# Altium footprint library Con_PcbLib.PcbLib: 98 footprints (part 6 of 7)
Each footprint in its own frame and in the unit in brackets; x right, y up, seen from the top. Pads: shape width x height; smd on the part's side, far side on the other; paste and mask are expansions set on the pad; w line width, h text height; cw(c..) or ccw(c..) is an arc to the next point about the centre after c.
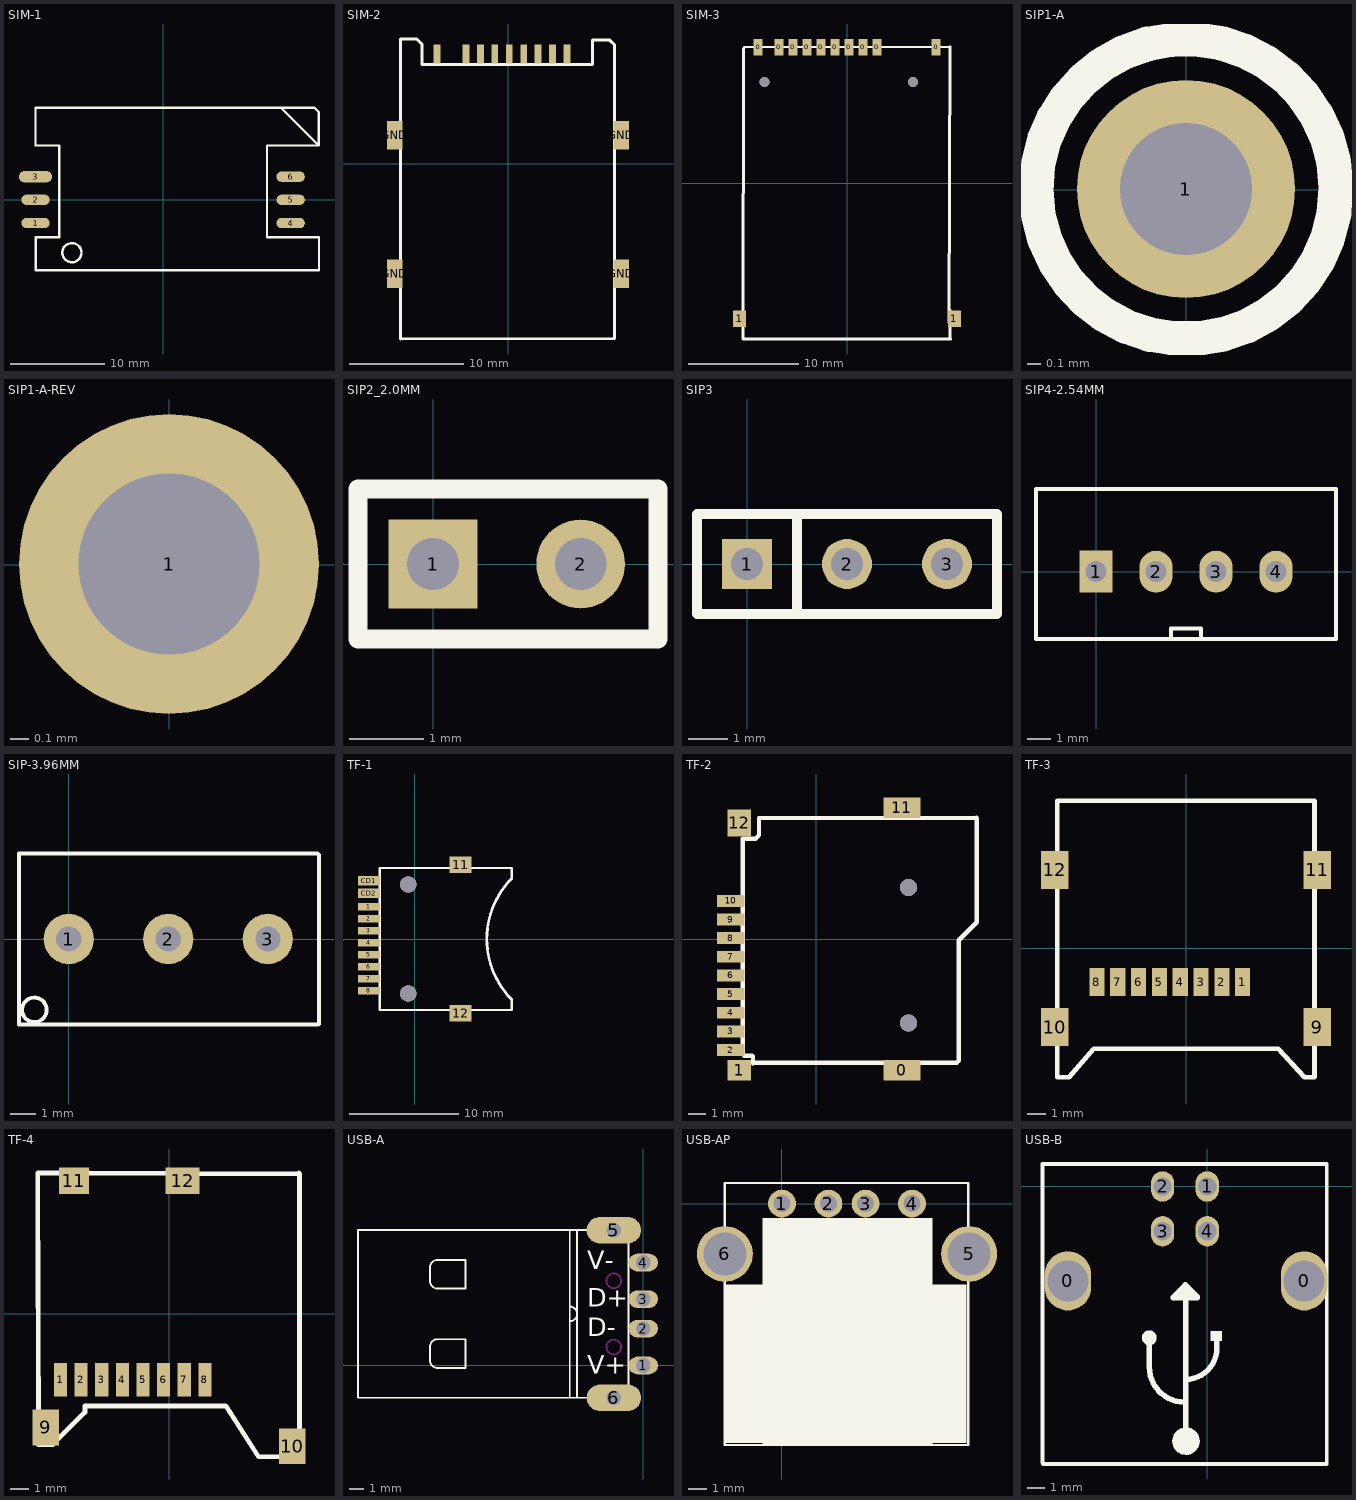
[diagram p5: the footprints below, top view; thin cyan lines are the x and y axes]

## SIM-1 [mm]
pads (6):
  oval 3x1.1 smd: 1(-13.5,-2.45) 2(-13.5,0) 4(13.5,-2.45) 5(13.5,0) 6(13.5,2.45)
  oval 3.5x1.2 smd: 3(-13.5,2.45)
Top Overlay:
  circle w0.254: c-9.652,-5.588 r1.016
  lines w0.254: -13.495,-7.43 -13.495,-3.95 -11,-3.95 -11,5.735 ; -13.475,-7.45 16.5,-7.45 ; -11,5.75 -13.492,5.75 -13.5,5.758 -13.5,9.75 16.011,9.75 16.467,9.294 16.467,5.75 ; 11,-3.95 11,5.75 16.467,5.75 ; 11.005,-3.95 14.923,-3.95 ; 12.467,9.75 16.467,5.75 ; 14.542,-3.95 16.495,-3.95 16.495,-7.445

## SIM-2 [mm]
pads (13):
  rect 0.6x1.65 smd: 0(-6.25,9.662) 0(-3.7,9.662) 0(-2.43,9.662) 0(-1.16,9.662) 0(0.11,9.662) 0(1.38,9.662) 0(2.65,9.662) 0(3.92,9.662) 0(5.19,9.662)
  rect 1.35x2.5 smd: GND(-9.95,-9.662) GND(-9.95,2.538) GND(9.95,-9.662) GND(9.95,2.537)
Top Overlay:
  lines w0.254: -9.44,-15.382 -9.44,10.983 -9.186,10.983 -8.018,10.983 -7.561,10.526 -7.561,8.748 7.425,8.748 7.425,10.882 8.949,10.882 9.356,10.475 9.356,-15.331 -9.44,-15.382

## SIM-3 [mm]
pads (12):
  rect 0.8x1.5 smd: 0(-8.07,12.325) 0(-6.17,12.325) 0(-4.9,12.325) 0(-3.63,12.325) 0(-2.36,12.325) 0(-1.09,12.325) 0(0.18,12.325) 0(1.45,12.325) 0(2.72,12.325) 0(8.08,12.325)
  rect 1.2x1.5 smd: 1(-9.75,-12.325) 1(9.75,-12.325)
via -7.5,9.175 diameter 0.9 hole 0.9
via 6,9.175 diameter 0.9 hole 0.9
Top Overlay:
  lines w0.254: 7.778,12.325 9.353,12.375 ; 9.251,-12.618 9.353,12.375 ; 9.353,-11.501 9.353,-14.091 9.404,-14.142 8.642,-14.142 -9.443,-14.142 -9.392,12.223 -9.291,12.325 9.353,12.375

## SIP1-A [mil]
pads (1):
  round 63 hole 38: 1(-0.06,0.21)
Top Overlay:
  lines w10: 43.25,0.21 cw(c-0.06,0.21) 43.24,0.94

## SIP1-A-REV [mil]
pads (1):
  round 63 hole 38: 1(-0.06,0.21)

## SIP2_2.0MM [mm]
pads (2):
  rect 1.2x1.2 hole 0.7: 1(0,0)
  round 1.2 hole 0.7: 2(2,0)
Top Overlay:
  lines w0.254: -1.016,-1.016 -1.016,1.016 3.048,1.016 3.048,-1.016 -1.016,-1.016

## SIP3 [mil]
pads (3):
  rect 50x50 hole 32: 1(0,0)
  round 50 hole 32: 2(100,0) 3(200,0)
Top Overlay:
  lines w10: 50,-50 50,50 ; -50,-50 250,-50 250,50 -50,50 -50,-50

## SIP4-2.54MM [mil]
pads (4):
  rect 55x70 hole 35: 1(0,0)
  oval 55x70 hole 35: 2(100,0) 3(200,0) 4(300,0)
Top Overlay:
  lines w7: 125,-112.2 125,-94.49 175,-94.49 175,-112.2 ; -100,-112.2 400,-112.2 400,137.8 -100,137.8 -100,-112.2

## SIP-3.96MM [mm]
pads (3):
  round 2 hole 1: 1(0,0) 2(3.96,0) 3(7.92,0)
Top Overlay:
  circle w0.152: c-1.372,-2.819 r0.488
  lines w0.152: -1.981,3.378 -1.98,3.377 -1.98,-3.4 9.9,-3.4 ; -1.98,3.4 9.9,3.4 9.957,3.343 9.957,-3.378

## TF-1 [mm]
pads (14):
  rect 2x0.7 smd: 1(-4.2,2.95) 2(-4.2,1.85) 3(-4.2,0.75) 4(-4.2,-0.35) 5(-4.2,-1.45) 6(-4.2,-2.55) 7(-4.2,-3.65) 8(-4.2,-4.75)
  rect 2x1.5 smd: 11(4.2,6.82) 12(4.2,-6.82)
  rect 2x0.85 smd: CD1(-4.2,5.35) CD2(-4.2,4.2)
  round 1.5 hole 1.5 unplated: ""(-0.6,-5)
  round 1.5 hole 1.5: ""(-0.6,5)
Top Overlay:
  lines w0.2: 8.9,-5.55 8.9,-6.515 -3.2,-6.515 -3.2,6.515 8.9,6.515 8.9,5.55
  lines w0.254: 8.9,-5.55 cw(c14.45,0) 8.9,5.55

## TF-2 [mm]
pads (13):
  rect 2.2x1.2 smd: 0(5.05,-7.75) 11(5.05,7.75)
  rect 1.4x1.2 smd: 1(-4.55,-7.75)
  rect 1.6x0.7 smd: 2(-5.05,-6.55) 3(-5.05,-5.45) 4(-5.05,-4.35) 5(-5.05,-3.25) 6(-5.05,-2.15) 7(-5.05,-1.05) 8(-5.05,0.05) 9(-5.05,1.15) 10(-5.05,2.25)
  rect 1.4x1.6 smd: 12(-4.55,6.85)
via 5.45,3.05 diameter 1 hole 1
via 5.45,-4.95 diameter 1 hole 1
Top Layer:
  lines w0.254: -3.738,-7.344 -3.688,-7.293
Top Overlay:
  lines w0.254: -3.738,-7.344 -3.738,-6.937 -3.789,-6.886 -4.246,-6.886 -4.348,-6.785 -4.348,5.915 -3.586,5.915 -3.383,6.118 -3.383,7.134 9.45,7.15 ; -3.688,-7.293 8.301,-7.293 8.403,-7.191 8.403,-0.079 9.47,0.988 9.47,7.13

## TF-3 [mm]
pads (12):
  rect 0.8x1.5 smd: 1(2.993,-1.772) 2(1.893,-1.772) 3(0.793,-1.772) 4(-0.307,-1.772) 5(-1.407,-1.772) 6(-2.507,-1.772) 7(-3.607,-1.772) 8(-4.707,-1.772)
  rect 1.45x2 smd: 9(6.925,-4.15) 10(-6.925,-4.15) 11(6.925,4.15) 12(-6.925,4.15)
Top Overlay:
  lines w0.254: -6.805,-6.8 -6.182,-6.8 -4.875,-5.3 4.865,-5.3 6.264,-6.8 6.795,-6.8 6.795,7.8 -6.805,7.8 -6.805,-6.8

## TF-4 [mm]
pads (12):
  rect 0.7x1.8 smd: 1(-5.785,-3.525) 2(-4.685,-3.525) 3(-3.585,-3.525) 4(-2.485,-3.525) 5(-1.385,-3.525) 6(-0.285,-3.525) 7(0.815,-3.525) 8(1.915,-3.525)
  rect 1.4x1.9 smd: 9(-6.575,-6.075) 10(6.575,-7.075)
  rect 1.6x1.4 smd: 11(-5.075,7.075)
  rect 1.8x1.4 smd: 12(0.725,7.075)
Top Overlay:
  lines w0.254: -4.261,7.499 -7.004,7.499 ; 6.864,7.448 -7.004,7.499 ; 6.915,7.499 6.966,7.448 6.966,-7.64 ; 7.017,-7.589 6.966,-7.64 ; -7.004,7.499 -6.953,-6.979 -6.191,-6.979 -4.485,-5.273 -4.485,-4.925 2.935,-4.925 3.032,-4.925 4.781,-7.64 6.966,-7.64

## USB-A [mm]
pads (6):
  oval 2x1.2 hole 1: 1(0,0) 2(0.003,2.503) 3(0.003,4.506) 4(0.006,7)
  oval 3.7x1.8 hole 1: 5(-1.997,9.197) 6(-1.994,-2.198)
Top Overlay:
  lines w0.127: -4.998,-2.195 -4.998,9.205 ; -4.998,3.005 ccw(c-4.998,3.505) -4.998,4.005 ; -4.498,-2.195 -4.498,9.205 ; -3.398,-2.195 -19.398,-2.195 -19.398,9.205 -3.398,9.205 ; -0.998,-1.705 -0.998,8.715 ; -14.498,0.33 ccw(c-13.998,0.33) -13.998,-0.17 -12.098,-0.17 -12.098,1.78 -13.998,1.78 ccw(c-13.998,1.28) -14.498,1.28 -14.498,0.33 ; -14.498,5.73 ccw(c-13.998,5.73) -13.998,5.23 -12.098,5.23 -12.098,7.18 -13.998,7.18 ccw(c-13.998,6.68) -14.498,6.68 -14.498,5.73
  text "D-" at -3.789,1.976 h1.27
  text "V-" at -3.789,6.548 h1.27
  text "V+" at -3.789,-0.564 h1.27
  text "D+" at -3.789,4.008 h1.27
Keep-Out Layer:
  circle w0.127: c-1.998,1.255 r0.5
  circle w0.127: c-1.998,5.755 r0.5
  lines w0.127: -2.898,-2.695 cw(c-2.898,-2.195) -2.898,-1.695 -1.098,-1.695 cw(c-1.098,-2.195) -1.098,-2.695 -2.898,-2.695 ; -2.898,8.705 cw(c-2.898,9.205) -2.898,9.705 -1.098,9.705 cw(c-1.098,9.205) -1.098,8.705 -2.898,8.705

## USB-AP [mm]
pads (6):
  round 1.5 hole 0.92: 1(0,0) 2(2.5,0) 3(4.5,0) 4(7,0)
  round 3 hole 2.3: 5(10.07,-2.71) 6(-3.07,-2.71)
Top Overlay:
  rectangle: -3.025,-12.879 9.929,-4.344
  rectangle: -1.044,-12.93 8.1,-0.788
  lines w0.127: -3.07,-12.99 -3.07,-2.71 -3.07,1.11 10.03,1.11 10.03,-12.99 -3.07,-12.99

## USB-B [mm]
pads (6):
  oval 2.6x3.3 hole 2.3: 0(-7.789,-5.281) 0(5.411,-5.281)
  oval 1.3x1.7 hole 1.016: 1(0,0) 2(-2.5,0) 3(-2.5,-2.5) 4(0,-2.5)
Top Overlay:
  rectangle: -1.514,-14.706 -0.814,-13.756
  rectangle: -3.339,-8.531 -3.139,-8.331
  rectangle: 0.186,-8.631 0.836,-8.081
  lines w0.203: -9.206,-15.432 -9.206,1.256 6.669,1.256 6.669,-15.508 ; -9.189,0.169 -9.189,-15.506 6.686,-15.506 6.686,0.169 ; -9.114,1.236 6.686,1.236
  lines w0.305: -3.239,-8.581 -3.239,-10.081 ccw(c-1.264,-10.081) -1.264,-12.056 ; -3.025,-8.605 cw(c-3.239,-8.456) -2.989,-8.532 ; -1.914,-6.206 -0.564,-6.206 -0.814,-5.956 -1.639,-5.956 ; -1.889,-6.181 -1.214,-5.506 -1.214,-13.981 ; -1.614,-13.906 ccw(c-1.214,-14.156) -1.564,-13.84 ; -1.516,-13.707 ccw(c-1.189,-14.231) -1.469,-13.681 ; -1.239,-5.756 -1.239,-5.481 -0.564,-6.156 ; -1.214,-10.781 ccw(c-1.214,-9.031) 0.536,-9.031 0.536,-8.681 ; -1.09,-13.979 ccw(c-1.264,-14.106) -1.05,-14.079